# Altium schematic symbol library phillipsPMT.SchLib: 1 symbol
Pins are listed as number, name and electrical type; pins without a type are passive.

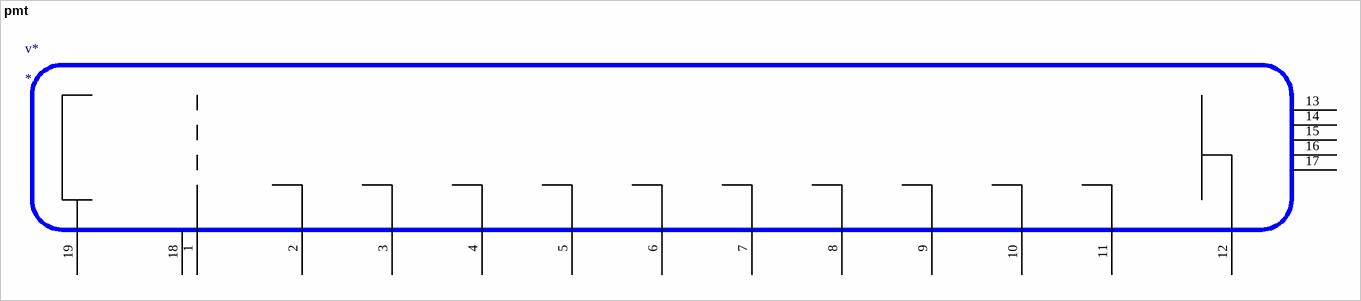
[diagram p0: symbol pmt]

## pmt
designator v*
pins: 1 G, 2 D1, 3 D2, 4 D3, 5 D4, 6 D5, 7 D6, 8 D7, 9 D8, 10 D9, 11 D10, 12 A, 13 NC, 14 NC, 15 NC, 16 NC, 17 NC, 18 G, 19 K